# Altium schematic symbol library ART-Pi_STM32H750_COPY.SchLib: 32 symbols
Pins are listed as number, name and electrical type; pins without a type are passive.

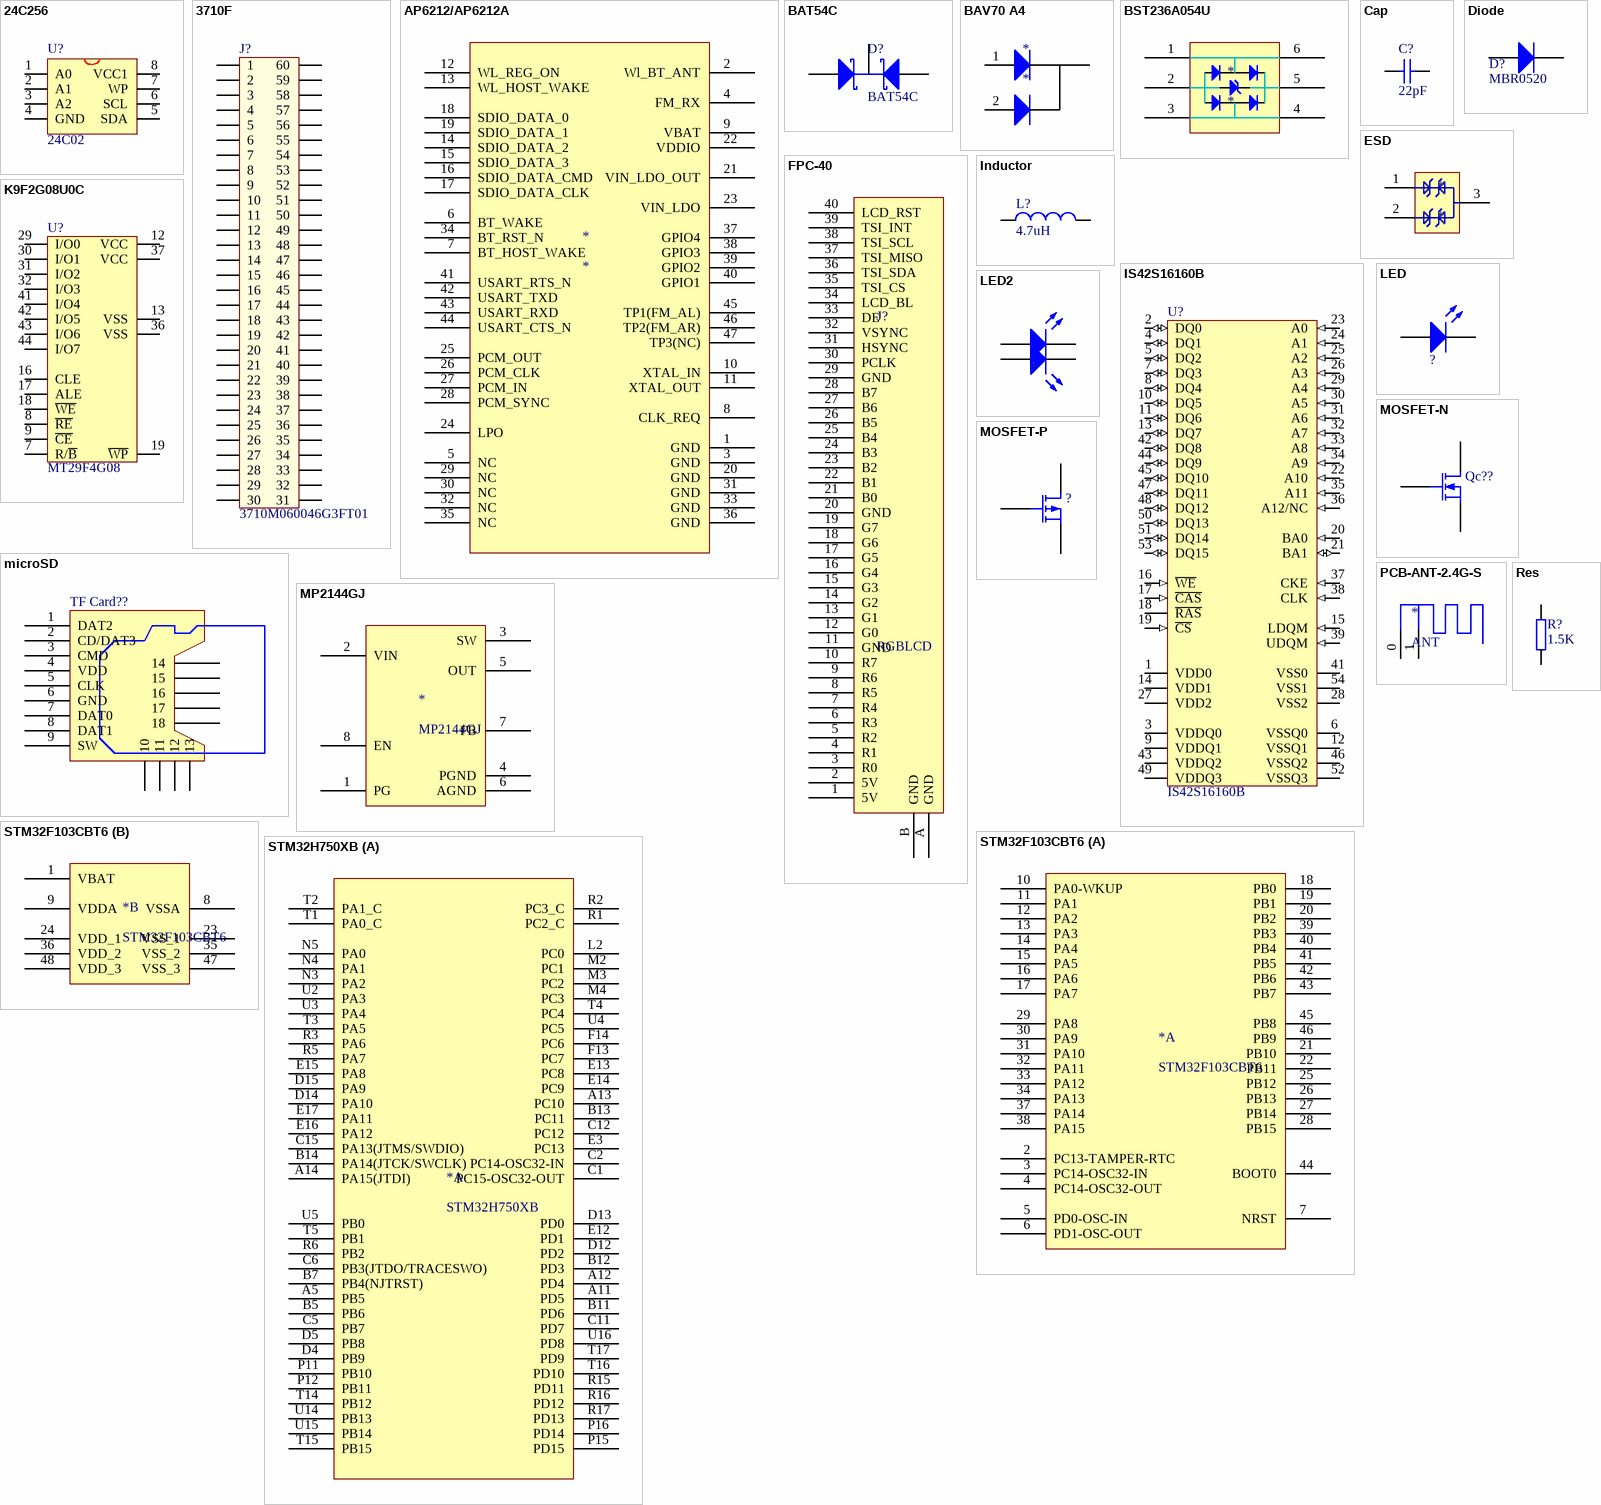
[diagram p0: symbols 24C256 to STM32H750XB]

## 24C256
designator U?, comment 24C02
EEPROM
footprint SOP-8 (SSOP8)
footprint TSSOP8 (Shrink Small Outline, MSOP; 8 Leads; Body Width 3 mm; Pitch 0.65 mm)
pins: 1 A0, 2 A1, 3 A2, 4 GND, 5 SDA, 6 SCL, 7 WP, 8 VCC1

## 3710F
designator J?, comment 3710M060046G3FT01
3710F060046G3FT01
footprint 3710F060046G3FT01 (Footprint not found)
pins: 1, 2, 3, 4, 5, 6, 7, 8, 9, 10, 11, 12, 13, 14, 15, 16, 17, 18, 19, 20, 21, 22, 23, 24, 25, 26, 27, 28, 29, 30, 31, 32, 33, 34, 35, 36, 37, 38, 39, 40, 41, 42, 43, 44, 45, 46, 47, 48, 49, 50, 51, 52, 53, 54, 55, 56, 57, 58, 59, 60

## AP6212/AP6212A
designator *
pins: 1 GND, 2 Wl_BT_ANT, 3 GND, 4 FM_RX, 5 NC, 6 BT_WAKE, 7 BT_HOST_WAKE, 8 CLK_REQ, 9 VBAT, 10 XTAL_IN, 11 XTAL_OUT, 12 WL_REG_ON, 13 WL_HOST_WAKE, 14 SDIO_DATA_2, 15 SDIO_DATA_3, 16 SDIO_DATA_CMD, 17 SDIO_DATA_CLK, 18 SDIO_DATA_0, 19 SDIO_DATA_1, 20 GND, 21 VIN_LDO_OUT, 22 VDDIO, 23 VIN_LDO, 24 LPO, 25 PCM_OUT, 26 PCM_CLK, 27 PCM_IN, 28 PCM_SYNC, 29 NC, 30 NC, 31 GND, 32 NC, 33 GND, 34 BT_RST_N, 35 NC, 36 GND, 37 GPIO4, 38 GPIO3, 39 GPIO2, 40 GPIO1, 41 USART_RTS_N, 42 USART_TXD, 43 USART_RXD, 44 USART_CTS_N, 45 TP1(FM_AL), 46 TP2(FM_AR), 47 TP3(NC)

## BAT54C
designator D?
Schottky Diode; Published: 8-Jun-2000; LatestRevisionDate: 17-Jul-2002; LatestRevisionNote: Re-released for DXP Platform.; PackageReference: SMB; Publisher: Altium Limited; PackageDescription: DO-214-AA/SMB; 2 C-Bend Leads; Body 5.3 x 3.6 mm, inc. leads (LxW); Code_JEDEC: DO-214-AA
footprint SOT23_P
pins: 1, 2, 3

## BAV70 A4
designator *
footprint SOT23_P
pins: 1, 2, 3

## BST236A054U
designator *
pins: 1, 2, 3, 4, 5, 6

## Cap
designator C?, comment 22pF
Capacitor; Published: 8-Jun-2000; LatestRevisionDate: 17-Jul-2002; LatestRevisionNote: Re-released for DXP Platform.; PackageReference: RAD-0.3; Publisher: Altium Limited; PackageDescription: Radial Cap, Thru-Hole; 2 Leads; 0.3 in Pin Spacing; Value: 22pF
footprint 0603
footprint 0402_C
pins: 1, 2

## Diode
designator D?, comment MBR0520
Default Diode; Published: 8-Jun-2000; LatestRevisionDate: 17-Jul-2002; LatestRevisionNote: Re-released for DXP Platform.; PackageVersion: Sep-1996; PackageReference: SMC; Publisher: Altium Limited; PackageDescription: DO-214-AB/SMC; 2 C-Bend Leads; Body 7.9 x 5.9 mm, inc. leads (LxW); Code_JEDEC: DO-214-AB
footprint SMC (DO-214-AB/SMC; 2 C-Bend Leads; Body 7.9 x 5.9 mm, inc. leads (LxW))
simulation model DIODE (Diode)
signal-integrity model Diode
pins: 1 A, 2 K

## ESD
designator *
footprint SOT23-3N (3x1.3x1mm(长宽高))
pins: 1, 2, 3

## FPC-40
designator J?, comment RGBLCD
FPC-40P-0.5mm
footprint FPC-TOP40
pins: 1 5V, 2 5V, 3 R0, 4 R1, 5 R2, 6 R3, 7 R4, 8 R5, 9 R6, 10 R7, 11 GND, 12 G0, 13 G1, 14 G2, 15 G3, 16 G4, 17 G5, 18 G6, 19 G7, 20 GND, 21 B0, 22 B1, 23 B2, 24 B3, 25 B4, 26 B5, 27 B6, 28 B7, 29 GND, 30 PCLK, 31 HSYNC, 32 VSYNC, 33 DE, 34 LCD_BL, 35 TSI_CS, 36 TSI_SDA, 37 TSI_MISO, 38 TSI_SCL, 39 TSI_INT, 40 LCD_RST, A GND, B GND

## Inductor
designator L?, comment 4.7uH
Inductor; Code_IEC: 1005; Value: 10mH; Published: 8-Jun-2000; LatestRevisionDate: 29-May-2009; LatestRevisionNote: IPC-7351 Footprint Added.; PackageReference: 0402-A; Publisher: Altium Limited; PackageDescription: Chip Inductor; Code_JEITA: 0402
pins: 1, 2

## IS42S16160B
designator U?
32MB SDRAM
footprint TSOP54
pins: 1 VDD0 (power), 2 DQ0 (io), 3 VDDQ0 (power), 4 DQ1 (io), 5 DQ2 (io), 6 VSSQ0 (power), 7 DQ3 (io), 8 DQ4 (io), 9 VDDQ1 (power), 10 DQ5 (io), 11 DQ6 (io), 12 VSSQ1 (power), 13 DQ7 (io), 14 VDD1 (power), 15 LDQM (in), 16 ~{WE} (in), 17 ~{CAS} (in), 18 ~{RAS}, 19 ~{CS} (in), 20 BA0 (in), 21 BA1 (io), 22 A10 (in), 23 A0 (in), 24 A1 (in), 25 A2 (in), 26 A3 (in), 27 VDD2 (power), 28 VSS2 (power), 29 A4 (in), 30 A5 (in), 31 A6 (in), 32 A7 (in), 33 A8 (in), 34 A9 (in), 35 A11 (in), 36 A12/NC (in), 37 CKE (in), 38 CLK (in), 39 UDQM (in), 41 VSS0 (power), 42 DQ8 (io), 43 VDDQ2 (power), 44 DQ9 (io), 45 DQ10 (io), 46 VSSQ2 (power), 47 DQ11 (io), 48 DQ12 (io), 49 VDDQ3 (power), 50 DQ13 (io), 51 DQ14 (io), 52 VSSQ3 (power), 53 DQ15 (io), 54 VSS1 (power)
2 alternate drawings of the same symbol

## K9F2G08U0C
designator U?, comment MT29F4G08
256MB NAND FLASH
footprint TSOP48
pins: 7 R/~{B}, 8 ~{RE}, 9 ~{CE}, 12 VCC, 13 VSS, 16 CLE, 17 ALE, 18 ~{WE}, 19 ~{WP}, 29 I/O0, 30 I/O1, 31 I/O2, 32 I/O3, 36 VSS, 37 VCC, 41 I/O4, 42 I/O5, 43 I/O6, 44 I/O7

## LED
designator ?  (value not drawn)
Typical RED, GREEN, YELLOW, AMBER GaAs LED; Published: 8-Jun-2000; LatestRevisionDate: 17-Jul-2002; LatestRevisionNote: Re-released for DXP Platform.; PackageVersion: Feb-2002; PackageReference: 3.2X1.6X1.1; Publisher: Altium Limited; PackageDescription: SM LED; 2 Flat Leads
footprint 0603_LED
pins: 1 A, 2 K

## LED2
designator ?  (value not drawn)
Typical RED, GREEN, YELLOW, AMBER GaAs LED; Published: 8-Jun-2000; LatestRevisionDate: 17-Jul-2002; LatestRevisionNote: Re-released for DXP Platform.; PackageVersion: Feb-2002; PackageReference: 3.2X1.6X1.1; Publisher: Altium Limited; PackageDescription: SM LED; 2 Flat Leads
pins: 1, 2, 3, 4

## microSD
designator TF Card??  (value not drawn)
footprint MOLEX-SD-105027-PKG
footprint TF Card
pins: 1 DAT2, 2 CD/DAT3, 3 CMD, 4 VDD, 5 CLK, 6 GND, 7 DAT0, 8 DAT1, 9 SW, 10, 11, 12, 13, 14, 15, 16, 17, 18

## MOSFET-N
designator Qc??  (value not drawn)
N-Channel MOSFET; Published: 8-Jun-2000; LatestRevisionDate: 17-Jul-2002; LatestRevisionNote: Re-released for DXP Platform.; PackageVersion: 1995/1996; PackageReference: E3; Publisher: Altium Limited; PackageDescription: TO, Flat Index; 3 In-Line, Axial Leads; Body Dia. 4.6mm; Lead Dia. 0.5 mm (max)
footprint SOT23_P
pins: 1 G, 2 S, 3 D

## MOSFET-P
designator ?  (value not drawn)
P-Channel MOSFET; Published: 8-Jun-2000; LatestRevisionDate: 17-Jul-2002; LatestRevisionNote: Re-released for DXP Platform.; PackageVersion: 1995/1996; PackageReference: E3; Publisher: Altium Limited; PackageDescription: TO, Flat Index; 3 In-Line, Axial Leads; Body Dia. 4.6mm; Lead Dia. 0.5 mm (max)
footprint SOT23_P
pins: 1 G, 2 S, 3 D

## MP2144GJ
designator *
footprint TSOP23-8
pins: 1 PG, 2 VIN, 3 SW, 4 PGND, 5 OUT, 6 AGND, 7 FB, 8 EN

## PCB-ANT-2.4G-S
designator *, comment ANT
footprint Model Name (Footprint not found)
pins: 0, 1

## Res
designator R?, comment 1.5K
Resister
footprint 0402_R
footprint AXIAL0.6
footprint 0805R
footprint AXIAL0.4
footprint 0805
pins: 1, 2

## STM32F103CBT6
designator *
footprint LQFP48_N (Thin QFP, 48-Leads, Body 7x7mm, Pitch 0.5mm, IPC Medium Density)
part A pins: 2 PC13-TAMPER-RTC, 3 PC14-OSC32-IN, 4 PC14-OSC32-OUT, 5 PD0-OSC-IN, 6 PD1-OSC-OUT, 7 NRST, 10 PA0-WKUP, 11 PA1, 12 PA2, 13 PA3, 14 PA4, 15 PA5, 16 PA6, 17 PA7, 18 PB0, 19 PB1, 20 PB2, 21 PB10, 22 PB11, 25 PB12, 26 PB13, 27 PB14, 28 PB15, 29 PA8, 30 PA9, 31 PA10, 32 PA11, 33 PA12, 34 PA13, 37 PA14, 38 PA15, 39 PB3, 40 PB4, 41 PB5, 42 PB6, 43 PB7, 44 BOOT0, 45 PB8, 46 PB9
part B pins: 1 VBAT, 8 VSSA, 9 VDDA, 23 VSS_1, 24 VDD_1, 35 VSS_2, 36 VDD_2, 47 VSS_3, 48 VDD_3

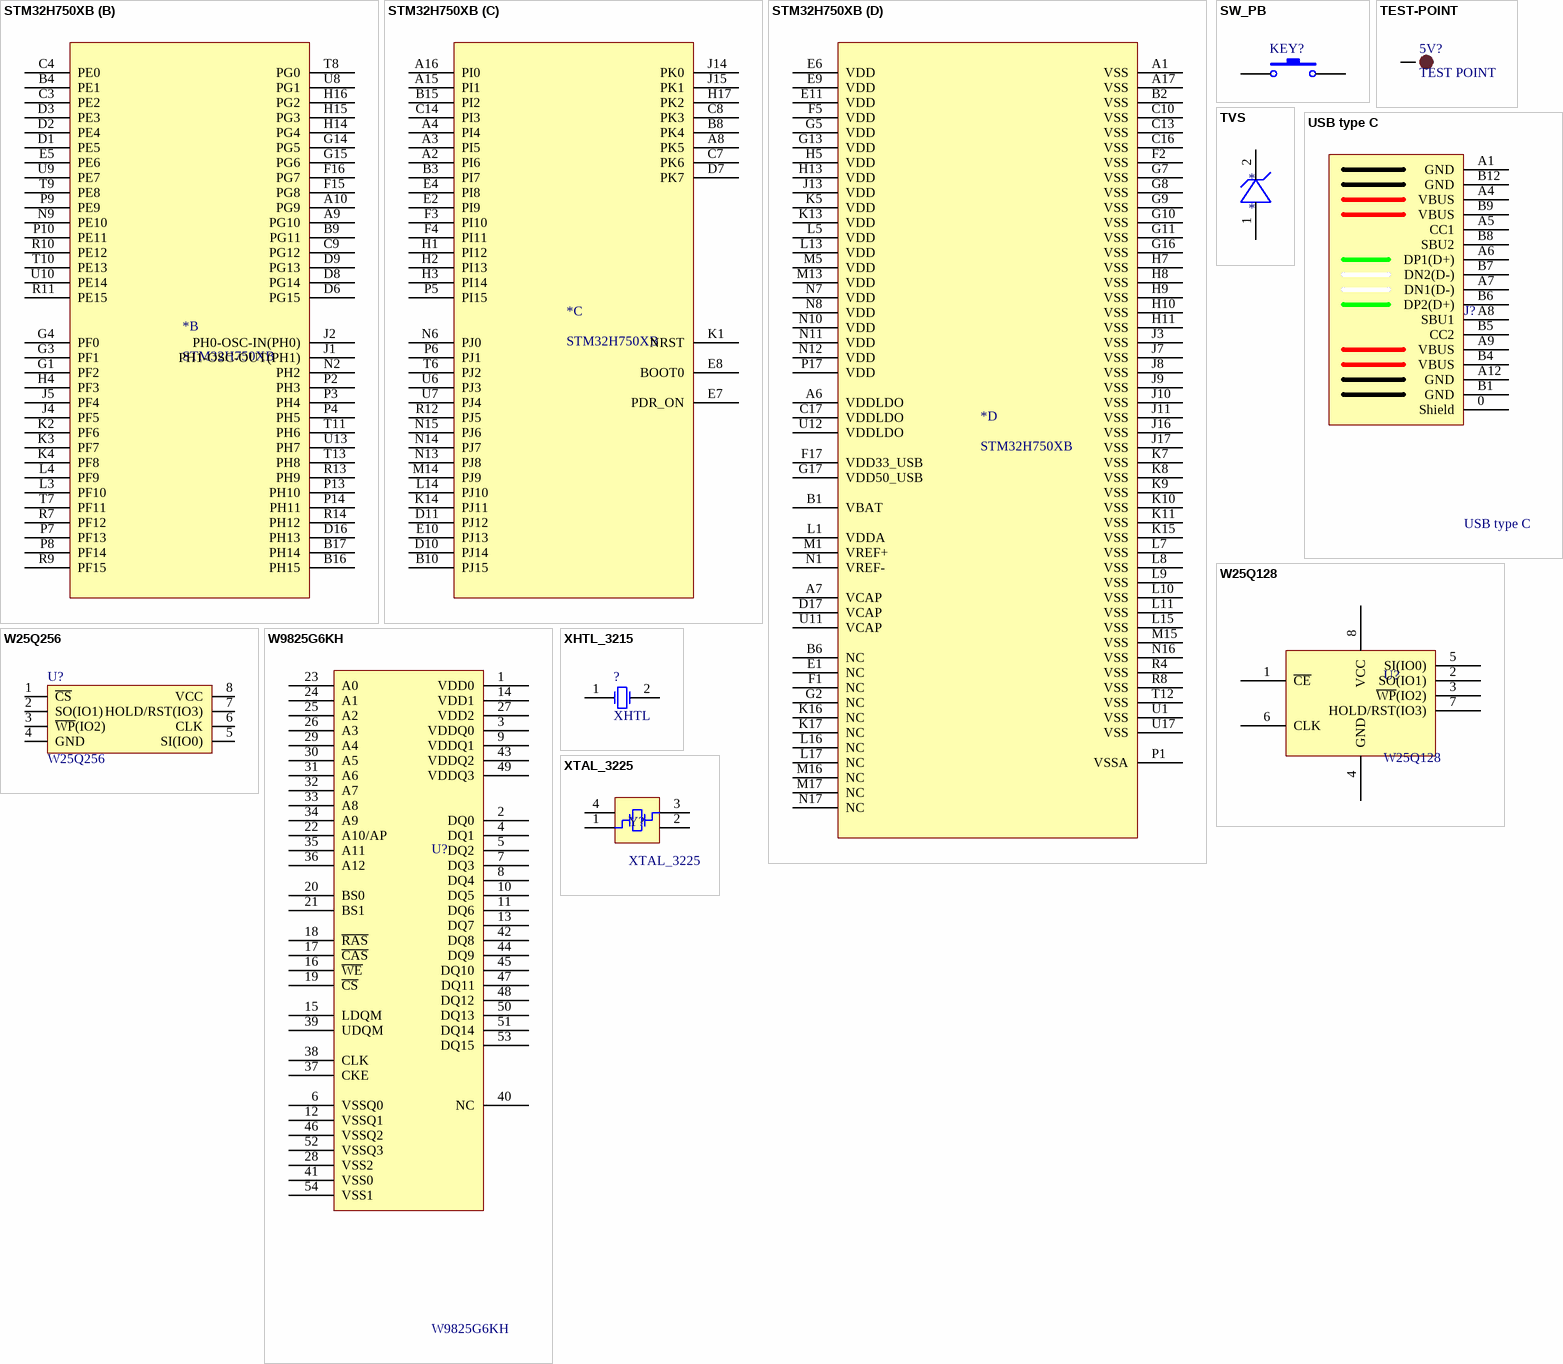
[diagram p1: symbols STM32H750XB to XTAL_3225]

## STM32H750XB
designator *
footprint TFBGA240+25 (STM32H750XBH6)
part A pins: A5 PB5, A11 PD5, A12 PD4, A13 PC10, A14 PA15(JTDI), B5 PB6, B7 PB4(NJTRST), B11 PD6, B12 PD3, B13 PC11, B14 PA14(JTCK/SWCLK), C1 PC15-OSC32-OUT, C2 PC14-OSC32-IN, C5 PB7, C6 PB3(JTDO/TRACESWO), C11 PD7, C12 PC12, C15 PA13(JTMS/SWDIO), D4 PB9, D5 PB8, D12 PD2, D13 PD0, D14 PA10, D15 PA9, E3 PC13, E12 PD1, E13 PC8, E14 PC9, E15 PA8, E16 PA12, E17 PA11, F13 PC7, F14 PC6, L2 PC0, M2 PC1, M3 PC2, M4 PC3, N3 PA2, N4 PA1, N5 PA0, P11 PB10, P12 PB11, P15 PD15, P16 PD14, R1 PC2_C, R2 PC3_C, R3 PA6, R5 PA7, R6 PB2, R15 PD11, R16 PD12, R17 PD13, T1 PA0_C, T2 PA1_C, T3 PA5, T4 PC4, T5 PB1, T14 PB12, T15 PB15, T16 PD10, T17 PD9, U2 PA3, U3 PA4, U4 PC5, U5 PB0, U14 PB13, U15 PB14, U16 PD8
part B pins: A9 PG10, A10 PG9, B4 PE1, B9 PG11, B16 PH15, B17 PH14, C3 PE2, C4 PE0, C9 PG12, D1 PE5, D2 PE4, D3 PE3, D6 PG15, D8 PG14, D9 PG13, D16 PH13, E5 PE6, F15 PG8, F16 PG7, G1 PF2, G3 PF1, G4 PF0, G14 PG5, G15 PG6, H4 PF3, H14 PG4, H15 PG3, H16 PG2, J1 PH1-OSC-OUT(PH1), J2 PH0-OSC-IN(PH0), J4 PF5, J5 PF4, K2 PF6, K3 PF7, K4 PF8, L3 PF10, L4 PF9, N2 PH2, N9 PE10, P2 PH3, P3 PH4, P4 PH5, P7 PF13, P8 PF14, P9 PE9, P10 PE11, P13 PH10, P14 PH11, R7 PF12, R9 PF15, R10 PE12, R11 PE15, R13 PH9, R14 PH12, T7 PF11, T8 PG0, T9 PE8, T10 PE13, T11 PH6, T13 PH8, U8 PG1, U9 PE7, U10 PE14, U13 PH7
part C pins: A2 PI6, A3 PI5, A4 PI4, A8 PK5, A15 PI1, A16 PI0, B3 PI7, B8 PK4, B10 PJ15, B15 PI2, C7 PK6, C8 PK3, C14 PI3, D7 PK7, D10 PJ14, D11 PJ12, E2 PI9, E4 PI8, E7 PDR_ON, E8 BOOT0, E10 PJ13, F3 PI10, F4 PI11, H1 PI12, H2 PI13, H3 PI14, H17 PK2, J14 PK0, J15 PK1, K1 NRST, K14 PJ11, L14 PJ10, M14 PJ9, N6 PJ0, N13 PJ8, N14 PJ7, N15 PJ6, P5 PI15, P6 PJ1, R12 PJ5, T6 PJ2, U6 PJ3, U7 PJ4
part D pins: A1 VSS, A6 VDDLDO, A7 VCAP, A17 VSS, B1 VBAT, B2 VSS, B6 NC, C10 VSS, C13 VSS, C16 VSS, C17 VDDLDO, D17 VCAP, E1 NC, E6 VDD, E9 VDD, E11 VDD, F1 NC, F2 VSS, F5 VDD, F17 VDD33_USB, G2 NC, G5 VDD, G7 VSS, G8 VSS, G9 VSS, G10 VSS, G11 VSS, G13 VDD, G16 VSS, G17 VDD50_USB, H5 VDD, H7 VSS, H8 VSS, H9 VSS, H10 VSS, H11 VSS, H13 VDD, J3 VSS, J7 VSS, J8 VSS, J9 VSS, J10 VSS, J11 VSS, J13 VDD, J16 VSS, J17 VSS, K5 VDD, K7 VSS, K8 VSS, K9 VSS, K10 VSS, K11 VSS, K13 VDD, K15 VSS, K16 NC, K17 NC, L1 VDDA, L5 VDD, L7 VSS, L8 VSS, L9 VSS, L10 VSS, L11 VSS, L13 VDD, L15 VSS, L16 NC, L17 NC, M1 VREF+, M5 VDD, M13 VDD, M15 VSS, M16 NC, M17 NC, N1 VREF-, N7 VDD, N8 VDD, N10 VDD, N11 VDD, N12 VDD, N16 VSS, N17 NC, P1 VSSA, P17 VDD, R4 VSS, R8 VSS, T12 VSS, U1 VSS, U11 VCAP, U12 VDDLDO, U17 VSS

## SW_PB
designator KEY?  (value not drawn)
Switch; Published: 24-Mar-1999; LatestRevisionDate: 17-Jul-2002; LatestRevisionNote: Re-released for DXP Platform.; PackageReference: SPST-2; Publisher: Altium Limited; PackageDescription: Switch; 2 Leads
footprint RST-6*6 (Footprint not found)
footprint SW-SMD (SW-SMD_L3.9-W2.9-P4.15-LS5.0)
pins: 1, 2

## TEST-POINT
designator 5V?, comment TEST POINT
测试点
footprint TP-1.0 (1.0mm)
footprint TP-1.5 (1.5mm)
pins: 1

## TVS
designator *
footprint DFN1612
pins: 1, 2

## USB type C
designator J?
footprint USB Type-C-16Pin_A
pins: 0 Shield, A1 GND, A4 VBUS, A5 CC1, A6 DP1(D+), A7 DN1(D-), A8 SBU1, A9 VBUS, A12 GND, B1 GND, B4 VBUS, B5 CC2, B6 DP2(D+), B7 DN2(D-), B8 SBU2, B9 VBUS, B12 GND

## W25Q128
designator U?
footprint SOIC_8 (SOIC-8_L5.3-W5.3-P1.27-LS8.0-BL)
pins: 1 ~{CE}, 2 SO(IO1), 3 ~{WP}(IO2), 4 GND, 5 SI(IO0) (power), 6 CLK, 7 HOLD/RST(IO3) (power), 8 VCC

## W25Q256
designator U?
footprint SOIC-8 (SOIC)
footprint WSON8
pins: 1 ~{CS}, 2 SO(IO1), 3 ~{WP}(IO2), 4 GND, 5 SI(IO0) (power), 6 CLK, 7 HOLD/RST(IO3) (power), 8 VCC

## W9825G6KH
designator U?
32MB SDRAM
footprint TSOP54
pins: 1 VDD0 (power), 2 DQ0, 3 VDDQ0 (power), 4 DQ1, 5 DQ2, 6 VSSQ0 (power), 7 DQ3, 8 DQ4, 9 VDDQ1 (power), 10 DQ5, 11 DQ6, 12 VSSQ1 (power), 13 DQ7, 14 VDD1 (power), 15 LDQM, 16 ~{WE} (hiz), 17 ~{CAS}, 18 ~{RAS}, 19 ~{CS}, 20 BS0, 21 BS1, 22 A10/AP, 23 A0, 24 A1, 25 A2, 26 A3, 27 VDD2 (power), 28 VSS2 (power), 29 A4, 30 A5, 31 A6, 32 A7, 33 A8, 34 A9, 35 A11, 36 A12, 37 CKE, 38 CLK, 39 UDQM, 40 NC, 41 VSS0 (power), 42 DQ8, 43 VDDQ2 (power), 44 DQ9, 45 DQ10, 46 VSSQ2 (power), 47 DQ11, 48 DQ12, 49 VDDQ3 (power), 50 DQ13, 51 DQ14, 52 VSSQ3 (power), 53 DQ15, 54 VSS1 (power)
2 alternate drawings of the same symbol

## XHTL_3215
designator ?, comment XHTL
Crystal Oscillator; Published: 17-Jul-2002; Datasheet: Latest Revision: 18-Apr-2000; Publisher: Altium Limited
footprint XT_3215_2P
pins: 1 OSC1, 2 OSC2
2 alternate drawings of the same symbol

## XTAL_3225
designator Y?
Crystal Oscillator; Published: 8-Jun-2000; LatestRevisionDate: 17-Jul-2002; LatestRevisionNote: Re-released for DXP Platform.; PackageReference: R38; Publisher: Altium Limited; PackageDescription: Crystal, Thru-Hole; 2 Leads; Body 3.1 x 8.2 mm (Dia.xH)
footprint XT-3225-4P (XTAL-SMT-3.2*2.5mm)
pins: 1 OSC1, 2 OSC2, 3, 4